# EAGLE library part EEPROM-I2C-4 (library CougsInSpace-IC-Memory)
EEPROM I²C - 4 Addresses M24M01 <https://github.com/CougsInSpace/Resources/blob/master/SupplierDocuments/ST/M24M01_EEPROM-I2C.pdf>
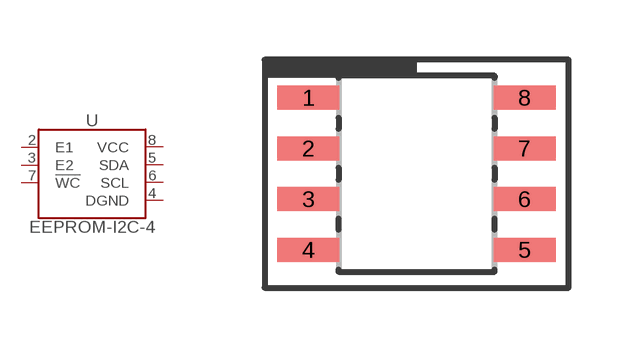
[diagram p0: symbol with the pads of SO8; footprint SO8]

Designator prefix U

## EEPROM-I2C-4-128KB-SO8 (SKU: 29-0001; VALUE: M24M01)  [SO8]
2  E1
3  E2
4  DGND  pwr
5  SDA
6  SCL  in
7  !WC  in
8  VCC  pwr

## Footprint SO8 (pad centres in mm)
Small-Outline (SO) - 8 Pins
smd 1.55 x 0.6: 1 -2.7,1.905; 2 -2.7,0.635; 3 -2.7,-0.635; 4 -2.7,-1.905; 5 2.7,-1.905; 6 2.7,-0.635; 7 2.7,0.635; 8 2.7,1.905